# EAGLE library part ADA4805-2ARMZ (library ADA4805-2ARMZ)
Dual, 0.2 V/C Offset Drift, 105 MHz Low Power, Low Noise, Rail-to-Rail Amplifier Source: Datasheet <https://www.analog.com/ADA4805-2/datasheet>
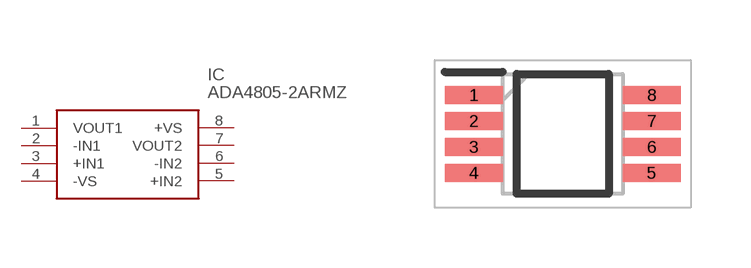
[diagram p0: symbol with the pads of SOP65P490X110-8N; footprint SOP65P490X110-8N]

Designator prefix IC

## ADA4805-2ARMZ (Arrow_Part_Number: ADA4805-2ARMZ; Arrow_Price-Stock: https://www.arrow.com/en/products/ada4805-2armz/analog-devices?region=nac; Description: Dual, 0.2 V/C Offset Drift, 105 MHz Low Power, Low Noise, Rail-to-Rail Amplifier; Height: 1.1mm; Manufacturer_Name: Analog Devices; Manufacturer_Part_Number: ADA4805-2ARMZ; Mouser_Part_Number: 584-ADA4805-2ARMZ; Mouser_Price-Stock: https://www.mouser.co.uk/ProductDetail/Analog-Devices/ADA4805-2ARMZ?qs=94CH1SeFPDbIgIDzbbE15w%3D%3D)  [SOP65P490X110-8N]
1  VOUT1
2  -IN1
3  +IN1
4  -VS
5  +IN2
6  -IN2
7  VOUT2
8  +VS

## Footprint SOP65P490X110-8N (pad centres in mm)
MICRO SOIC
smd 1.45 x 0.45: 1 -2.225,0.975; 2 -2.225,0.325; 3 -2.225,-0.325; 4 -2.225,-0.975; 5 2.225,-0.975; 6 2.225,-0.325; 7 2.225,0.325; 8 2.225,0.975